# EAGLE library part PHB_1MM27_2X17_?_S (library _hhn_con_pinhead_box_1mm27)
Pin Header Box-Type, 1.27mm/0.5"/50mil Pitch, 2x17 Circuits, single gates in schematic Note: see library description for an important note about THT-version
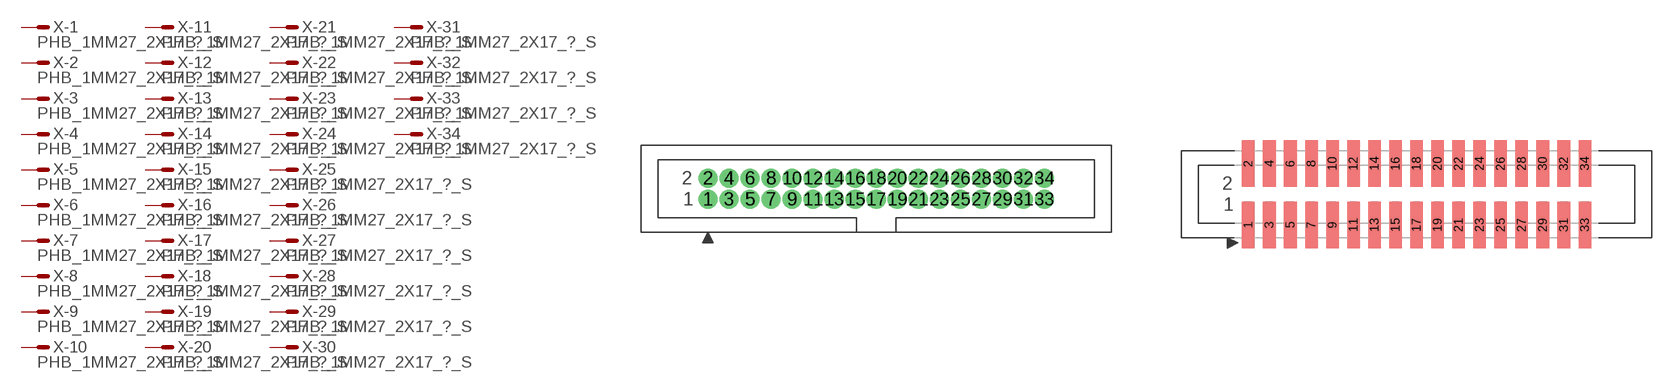
[diagram p27: symbol with the pads of PHB_1MM27_2X17_SNT; footprints PHB_1MM27_2X17_SNT, PHB_1MM27_2X17_SNS]

Designator prefix X; gates -1=M -2=M -3=M -4=M -5=M -6=M -7=M -8=M -9=M -10=M -11=M -12=M -13=M -14=M -15=M -16=M -17=M -18=M -19=M -20=M -21=M -22=M -23=M -24=M -25=M -26=M -27=M -28=M -29=M -30=M -31=M -32=M -33=M -34=M

## PHB_1MM27_2X17_SNT_S  [PHB_1MM27_2X17_SNT]
1  -1:S  pas
2  -2:S  pas
3  -3:S  pas
4  -4:S  pas
5  -5:S  pas
6  -6:S  pas
7  -7:S  pas
8  -8:S  pas
9  -9:S  pas
10  -10:S  pas
11  -11:S  pas
12  -12:S  pas
13  -13:S  pas
14  -14:S  pas
15  -15:S  pas
16  -16:S  pas
17  -17:S  pas
18  -18:S  pas
19  -19:S  pas
20  -20:S  pas
21  -21:S  pas
22  -22:S  pas
23  -23:S  pas
24  -24:S  pas
25  -25:S  pas
26  -26:S  pas
27  -27:S  pas
28  -28:S  pas
29  -29:S  pas
30  -30:S  pas
31  -31:S  pas
32  -32:S  pas
33  -33:S  pas
34  -34:S  pas

## PHB_1MM27_2X17_SNS_S  [PHB_1MM27_2X17_SNS]
Pads as for PHB_1MM27_2X17_SNT

## Footprint PHB_1MM27_2X17_SNT (pad centres in mm)
Pin Header Box-Type, 1.27mm Pitch, 2x17 circuits, Straight, No Locking, THT Important Note regarding to THT-versions: see description of library
drill 0.65 round: 1 -10.16,-0.635; 2 -10.16,0.635; 3 -8.89,-0.635; 4 -8.89,0.635; 5 -7.62,-0.635; 6 -7.62,0.635; 7 -6.35,-0.635; 8 -6.35,0.635; 9 -5.08,-0.635; 10 -5.08,0.635; 11 -3.81,-0.635; 12 -3.81,0.635; 13 -2.54,-0.635; 14 -2.54,0.635; 15 -1.27,-0.635; 16 -1.27,0.635; 17 0,-0.635; 18 0,0.635; 19 1.27,-0.635; 20 1.27,0.635; 21 2.54,-0.635; 22 2.54,0.635; 23 3.81,-0.635; 24 3.81,0.635; 25 5.08,-0.635; 26 5.08,0.635; 27 6.35,-0.635; 28 6.35,0.635; 29 7.62,-0.635; 30 7.62,0.635; 31 8.89,-0.635; 32 8.89,0.635; 33 10.16,-0.635; 34 10.16,0.635

## Footprint PHB_1MM27_2X17_SNS (pad centres in mm)
Pin Header Box-Type, 1.27mm Pitch, 2x17 circuits, Straight, No Locking, SMT
smd 0.76 x 2.8: 1 -10.16,-1.85; 2 -10.16,1.85; 3 -8.89,-1.85; 4 -8.89,1.85; 5 -7.62,-1.85; 6 -7.62,1.85; 7 -6.35,-1.85; 8 -6.35,1.85; 9 -5.08,-1.85; 10 -5.08,1.85; 11 -3.81,-1.85; 12 -3.81,1.85; 13 -2.54,-1.85; 14 -2.54,1.85; 15 -1.27,-1.85; 16 -1.27,1.85; 17 0,-1.85; 18 0,1.85; 19 1.27,-1.85; 20 1.27,1.85; 21 2.54,-1.85; 22 2.54,1.85; 23 3.81,-1.85; 24 3.81,1.85; 25 5.08,-1.85; 26 5.08,1.85; 27 6.35,-1.85; 28 6.35,1.85; 29 7.62,-1.85; 30 7.62,1.85; 31 8.89,-1.85; 32 8.89,1.85; 33 10.16,-1.85; 34 10.16,1.85